# Altium footprint library PcbLib-HarwareV3.PcbLib: 14 footprints
Each footprint in its own frame and in the unit in brackets; x right, y up, seen from the top. Pads: shape width x height; smd on the part's side, far side on the other; paste and mask are expansions set on the pad; w line width, h text height; cw(c..) or ccw(c..) is an arc to the next point about the centre after c.
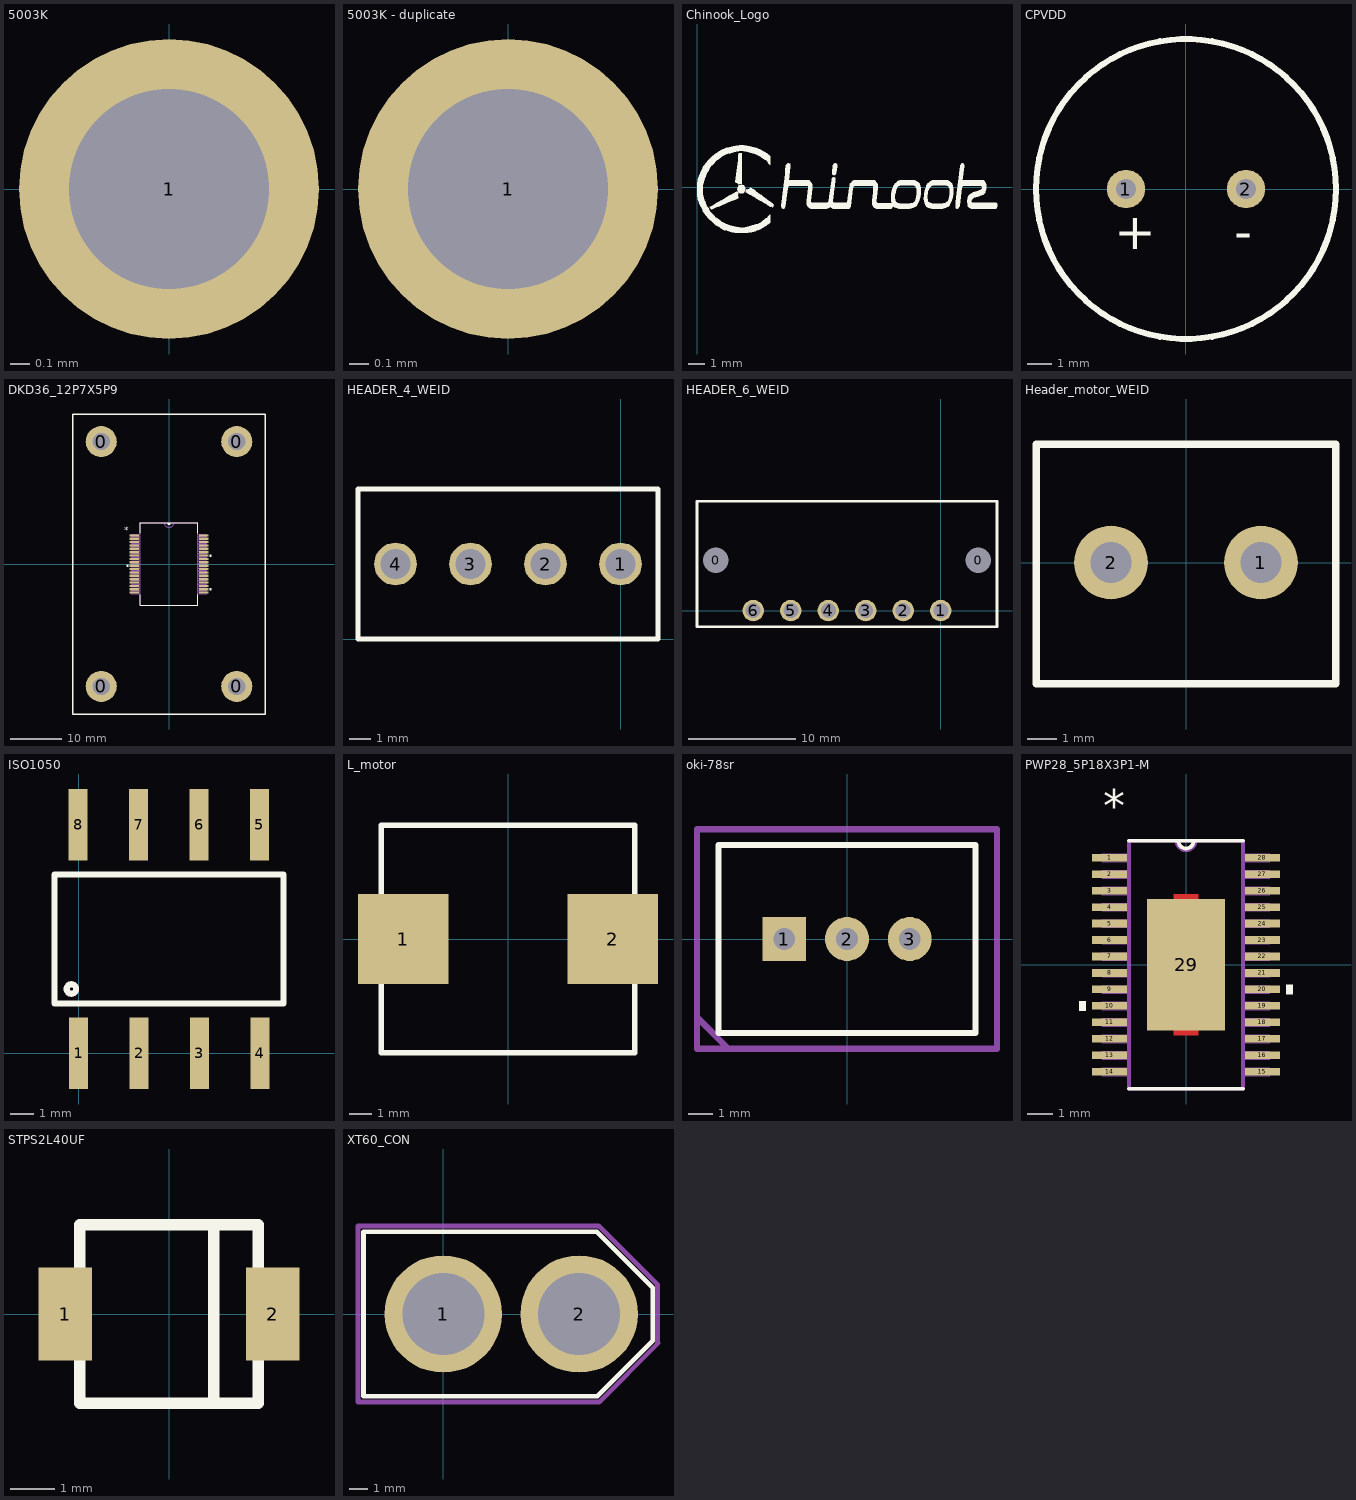
[diagram p0: the footprints below, top view; thin cyan lines are the x and y axes]

## 5003K [mil] "Testpoint"
height 179.92
pads (1):
  round 60 hole 40: 1(0,0)

## 5003K - duplicate [mil] "Testpoint"
height 179.92
pads (1):
  round 60 hole 40: 1(0,0)

## Chinook_Logo [mm]
Top Overlay:
  drawing of 9 lines, arcs and shapes, not listed

## CPVDD [mm] "Capacitor 1000uF PVDD"
pads (2):
  round 1.6 hole 0.85: 1(-2.5,0) 2(2.5,0)
Top Overlay:
  circle w0.254: c0,0 r6.25
  text "+" at -3,-2.5 h1.52
  text "-" at 2,-2.5 h1.52
3D body: height 27, standoff 0, extent -6.201,-6.238 6.25,6.238

## DKD36_12P7X5P9 [mm]
height 2.54
pads (40):
  round 6 hole 3.3: 0(-13.081,-23.622) 0(-13.081,23.622) 0(13.081,-23.622) 0(13.081,23.622)
  rect 1.811x0.431 smd: 1(-6.7,5.525) 2(-6.7,4.875) 3(-6.7,4.225) 4(-6.7,3.575) 5(-6.7,2.925) 6(-6.7,2.275) 7(-6.7,1.625) 8(-6.7,0.975) 9(-6.7,0.325) 10(-6.7,-0.325) 11(-6.7,-0.975) 12(-6.7,-1.625) 13(-6.7,-2.275) 14(-6.7,-2.925) 15(-6.7,-3.575) 16(-6.7,-4.225) 17(-6.7,-4.875) 18(-6.7,-5.525) 19(6.7,-5.525) 20(6.7,-4.875) 21(6.7,-4.225) 22(6.7,-3.575) 23(6.7,-2.925) 24(6.7,-2.275) 25(6.7,-1.625) 26(6.7,-0.975) 27(6.7,-0.325) 28(6.7,0.325) 29(6.7,0.975) 30(6.7,1.625) 31(6.7,2.275) 32(6.7,2.925) 33(6.7,3.575) 34(6.7,4.225) 35(6.7,4.875) 36(6.7,5.525)
Top Overlay:
  region: 7.86,1.816 8.114,1.816 8.114,1.435 7.86,1.435
  region: 7.86,-4.684 8.114,-4.684 8.114,-5.065 7.86,-5.065
  region: -7.86,-0.135 -8.114,-0.135 -8.114,-0.516 -7.86,-0.516
  lines w0.152: -5.55,-5.966 -5.55,-8 5.55,-8 5.55,-5.966 ; -5.55,5.966 -5.55,8 5.55,8 5.55,5.966 ; -0.305,8 ccw(c0,8) 0.305,8
  lines w0.254: -18.542,-28.956 -18.542,28.956 18.542,28.956 18.542,-28.956 -18.542,-28.956
  text "*" at -8.6,5.9 h1.27
Mechanical 1:
  drawing of 154 lines, arcs and shapes, not listed
  text "*" at -8.6,5.9 h1.27
3D body: height 22.9, standoff 3.75, extent -18.542,-28.956 18.542,28.956

## HEADER_4_WEID [mm]
height 11.1
pads (4):
  round 2 hole 1.4: 1(0,3.5) 2(-3.5,3.5) 3(-7,3.5) 4(-10.5,3.5)
Top Overlay:
  lines w0.254: -12.25,0 1.75,0 1.75,7 -12.25,7 -12.25,0
3D body: height 11.1, standoff 0, extent -12.25,0 1.75,7

## HEADER_6_WEID [mm]
height 7.5
pads (8):
  round 1.524 hole 2.4: 0(-21,4.7) 0(3.5,4.7)
  round 2 hole 1.4: 1(0,0) 2(-3.5,0) 3(-7,0) 4(-10.5,0) 5(-14,0) 6(-17.5,0)
Top Overlay:
  lines w0.254: -22.75,-1.5 5.25,-1.5 5.25,10.2 -22.75,10.2 -22.75,-1.5
3D body: height 7.5, standoff 0, extent -22.75,-1.5 5.25,10.2

## Header_motor_WEID [mm]
height 10.3
pads (2):
  round 2.5 hole 1.4: 1(2.54,0) 2(-2.54,0)
Top Overlay:
  lines w0.254: -5.08,-4.1 5.08,-4.1 5.08,4 -5.08,4 -5.08,-4.1
3D body: height 10.3, standoff 0, extent -5.08,-4.1 5.08,4

## ISO1050 [mm] "ISO1050 CAN Isolator"
height 4.85
pads (8):
  rect 0.8x3 smd: 1(0,0) 2(2.54,0) 3(5.08,0) 4(7.62,0) 5(7.6,9.6) 6(5.06,9.6) 7(2.52,9.6) 8(-0.02,9.6)
Top Overlay:
  circle w0.254: c-0.3,2.7 r0.2
  lines w0.254: -1,2.1 8.6,2.1 8.6,7.5 -1,7.5 -1,2.1

## L_motor [mm]
height 4
pads (2):
  rect 4.1x4.1 smd: 1(-4.75,0) 2(4.75,0)
Top Overlay:
  lines w0.254: -5.75,-5.15 5.75,-5.15 5.75,5.15 -5.75,5.15 -5.75,-5.15
3D body: height 4, standoff 0, extent -5.75,-5.15 5.75,5.15

## oki-78sr [mil] "5V regulator"
pads (3):
  rect 70x70 hole 35: 1(-100,0)
  round 70 hole 35: 2(0,0) 3(100,0)
Top Overlay:
  lines w10: -205,-150 205,-150 205,150 -205,150 -205,-150
Mechanical 15:
  lines w10: -239.12,-125 -189.12,-175 -170.8,-175 ; -239.12,-175 239.12,-175 239.12,175 -239.12,175 -239.12,-175
3D body: height 650, standoff 0, extent -204.96,-150 204.96,150

## PWP28_5P18X3P1-M [mil]
height 100
pads (29):
  rect 54x12 smd: 1(-119,166.34) 2(-119,140.75) 3(-119,115.16) 4(-119,89.57) 5(-119,63.98) 6(-119,38.39) 7(-119,12.8) 8(-119,-12.8) 9(-119,-38.39) 10(-119,-63.98) 11(-119,-89.57) 12(-119,-115.16) 13(-119,-140.75) 14(-119,-166.34) 15(119,-166.34) 16(119,-140.75) 17(119,-115.16) 18(119,-89.57) 19(119,-63.98) 20(119,-38.39) 21(119,-12.8) 22(119,12.8) 23(119,38.39) 24(119,63.98) 25(119,89.57) 26(119,115.16) 27(119,140.75) 28(119,166.34)
  rect 122.05x203.94 smd: 29(0,0)
Top Layer:
  region: 18.7,-101.97 -18.7,-101.97 -18.7,-109.84 18.7,-109.84 18.7,-101.97
  region: 18.7,101.97 -18.7,101.97 -18.7,109.84 18.7,109.84 18.7,101.97
Top Overlay:
  region: 156,-30.89 166,-30.89 166,-45.89 156,-45.89
  region: -156,-56.48 -166,-56.48 -166,-71.48 -156,-71.48
  lines w6: -88.5,-192.91 88.5,-192.91 ; -88.5,192.91 88.5,192.91 ; -12,192.91 ccw(c0,192.91) 12,192.91
  text "*" at -129,223.34 h50
Top Solder:
  region: 18.7,-101.97 -18.7,-101.97 -18.7,-109.84 18.7,-109.84 18.7,-101.97
  region: 18.7,101.97 -18.7,101.97 -18.7,109.84 18.7,109.84 18.7,101.97
Mechanical 1:
  lines w0: -12,192.91 ccw(c0,192.91) 12,192.91 ; -130,-172.34 -88.5,-172.34 -88.5,-160.34 -130,-160.34 -130,-172.34 ; -130,-146.75 -88.5,-146.75 -88.5,-134.75 -130,-134.75 -130,-146.75 ; -130,-121.16 -88.5,-121.16 -88.5,-109.16 -130,-109.16 -130,-121.16 ; -130,-95.57 -88.5,-95.57 -88.5,-83.57 -130,-83.57 -130,-95.57 ; -130,-69.98 -88.5,-69.98 -88.5,-57.98 -130,-57.98 -130,-69.98 ; -130,-44.39 -88.5,-44.39 -88.5,-32.39 -130,-32.39 -130,-44.39 ; -130,-18.8 -88.5,-18.8 -88.5,-6.8 -130,-6.8 -130,-18.8 ; -130,6.8 -88.5,6.8 -88.5,18.8 -130,18.8 -130,6.8 ; -130,32.39 -88.5,32.39 -88.5,44.39 -130,44.39 -130,32.39 ; -130,57.98 -88.5,57.98 -88.5,69.98 -130,69.98 -130,57.98 ; -130,83.57 -88.5,83.57 -88.5,95.57 -130,95.57 -130,83.57 ; -130,109.16 -88.5,109.16 -88.5,121.16 -130,121.16 -130,109.16 ; -130,134.75 -88.5,134.75 -88.5,146.75 -130,146.75 -130,134.75 ; -130,160.34 -88.5,160.34 -88.5,172.34 -130,172.34 -130,160.34 ; -88.5,-192.91 -88.5,192.91 88.5,192.91 88.5,-192.91 -88.5,-192.91 ; 88.5,-172.34 130,-172.34 130,-160.34 88.5,-160.34 88.5,-172.34 ; 88.5,-146.75 130,-146.75 130,-134.75 88.5,-134.75 88.5,-146.75 ; 88.5,-121.16 130,-121.16 130,-109.16 88.5,-109.16 88.5,-121.16 ; 88.5,-95.57 130,-95.57 130,-83.57 88.5,-83.57 88.5,-95.57 ; 88.5,-69.98 130,-69.98 130,-57.98 88.5,-57.98 88.5,-69.98 ; 88.5,-44.39 130,-44.39 130,-32.39 88.5,-32.39 88.5,-44.39 ; 88.5,-18.8 130,-18.8 130,-6.8 88.5,-6.8 88.5,-18.8 ; 88.5,6.8 130,6.8 130,18.8 88.5,18.8 88.5,6.8 ; 88.5,32.39 130,32.39 130,44.39 88.5,44.39 88.5,32.39 ; 88.5,57.98 130,57.98 130,69.98 88.5,69.98 88.5,57.98 ; 88.5,83.57 130,83.57 130,95.57 88.5,95.57 88.5,83.57 ; 88.5,109.16 130,109.16 130,121.16 88.5,121.16 88.5,109.16 ; 88.5,134.75 130,134.75 130,146.75 88.5,146.75 88.5,134.75 ; 88.5,160.34 130,160.34 130,172.34 88.5,172.34 88.5,160.34
  lines w6: -14.75,192.91 ccw(c0,192.91) 14.75,192.91 ; -88.5,-192.91 88.5,-192.91 88.5,192.91 -88.5,192.91 -88.5,-192.91
  text "100" at 0,0 h50
  text "*" at -129,223.34 h50

## STPS2L40UF [mm] "Rectifier 2A Buck"
pads (2):
  rect 1.2x2.07 smd: 1(-2.32,0) 2(2.32,0)
Top Overlay:
  lines w0.254: 1,-2 1,2 ; -2,-2 -2,2 2,2 2,-2 -2,-2
3D body: height 1.1, standoff 0, extent -2,-2 2,2

## XT60_CON [mil]
pads (2):
  round 250 hole 175: 1(0,0) 2(289,0)
Top Overlay:
  lines w10: 0,175 327,175 446,56 446,-57 328,-175 311.12,-175 -170,-175 -170,175 320,175
Mechanical 15:
  lines w10: -181.7,-187.5 -181.7,187.5 330.5,187.5 456,62 456,-60.46 456.89,-61.35 456.89,-62.11 331.5,-187.5 240.35,-187.5 -181.7,-187.5